# EAGLE library part ADS8661IPW (library SamacSys_Parts)
Analog to Digital Converters - ADC 12-Bit 1.25MSPS Single-Supply SAR ADC Data Acquisition System With Programmable Bipolar Input Ranges 16-TSSOP -40 to 125 Source: Datasheet <http://www.ti.com/lit/ds/symlink/ads8661.pdf>
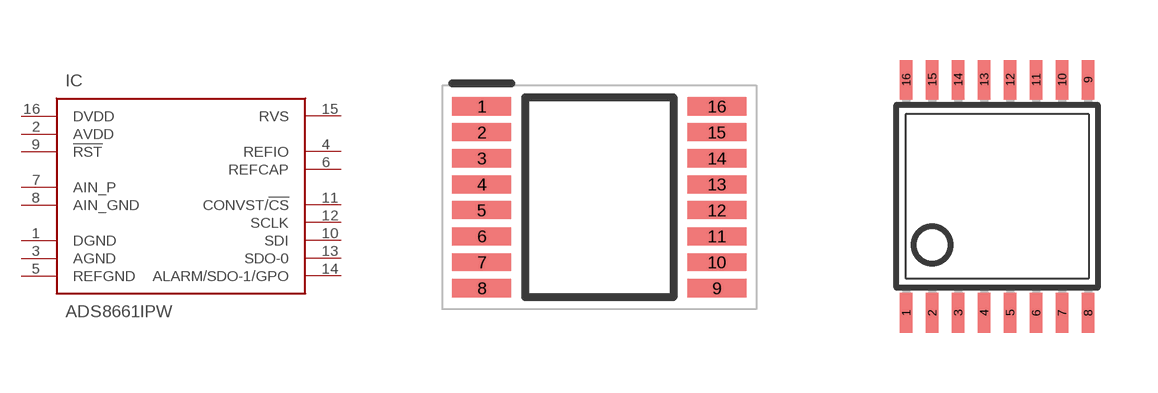
[diagram p0: symbol with the pads of SOP65P640X120-16N; footprints SOP65P640X120-16N, TSSOP16]

Designator prefix IC

## ADS8661IPW (DESCRIPTION: Analog to Digital Converters - ADC 12-Bit 1.25MSPS Single-Supply SAR ADC Data Acquisition System With Programmable Bipolar Input Ranges 16-TSSOP -40 to 125; HEIGHT: 1.2mm; MANUFACTURER_NAME: Texas Instruments; MANUFACTURER_PART_NUMBER: ADS8661IPW; MOUSER_PART_NUMBER: 595-ADS8661IPW; MOUSER_PRICE-STOCK: https://www.mouser.com/Search/Refine.aspx?Keyword=595-ADS8661IPW)  [SOP65P640X120-16N]
1  DGND
2  AVDD
3  AGND
4  REFIO
5  REFGND
6  REFCAP
7  AIN_P
8  AIN_GND
9  !RST
10  SDI
11  CONVST/!CS
12  SCLK
13  SDO-0
14  ALARM/SDO-1/GPO
15  RVS
16  DVDD

## ADS8661IPW3D  [TSSOP16]
Pads as for SOP65P640X120-16N

## Footprint SOP65P640X120-16N (pad centres in mm)
PWP0016A-5
smd 1.475 x 0.45: 1 -2.938,2.275; 2 -2.938,1.625; 3 -2.938,0.975; 4 -2.938,0.325; 5 -2.938,-0.325; 6 -2.938,-0.975; 7 -2.938,-1.625; 8 -2.938,-2.275; 9 2.938,-2.275; 10 2.938,-1.625; 11 2.938,-0.975; 12 2.938,-0.325; 13 2.938,0.325; 14 2.938,0.975; 15 2.938,1.625; 16 2.938,2.275

## Footprint TSSOP16 (pad centres in mm)
Thin Shrink Small Outline Plastic 16 MAX3223-MAX3243.pdf
smd 0.305 x 0.991: 1 -2.275,-2.918; 2 -1.625,-2.918; 3 -0.975,-2.918; 4 -0.325,-2.918; 5 0.325,-2.918; 6 0.975,-2.918; 7 1.625,-2.918; 8 2.275,-2.918; 9 2.275,2.918; 10 1.625,2.918; 11 0.975,2.918; 12 0.325,2.918; 13 -0.325,2.918; 14 -0.975,2.918; 15 -1.625,2.918; 16 -2.275,2.918